# EAGLE library part W5500 (library prj_snowmaker)
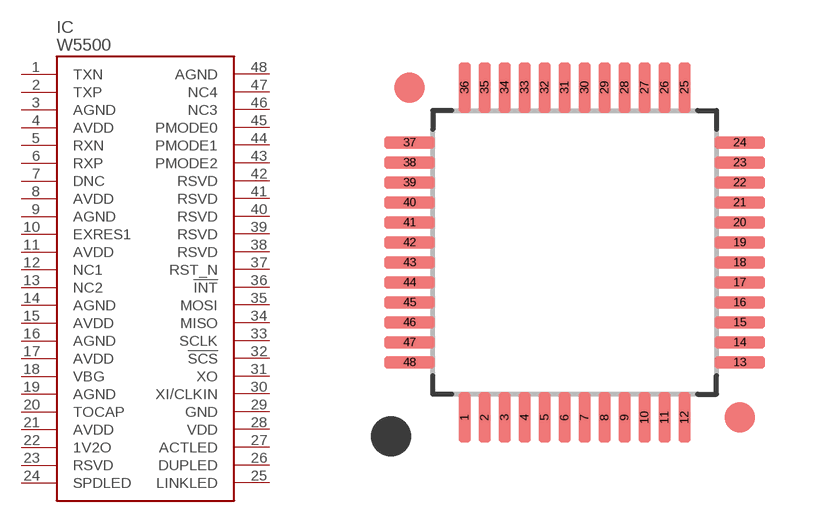
[diagram p5: symbol with the pads of LQFP48_7X7_0.5P; footprint LQFP48_7X7_0.5P]

Designator prefix IC

## W5500  [LQFP48_7X7_0.5P]
1  TXN  out
2  TXP  out
3  AGND
4  AVDD
5  RXN  in
6  RXP  in
7  DNC  nc
8  AVDD  pwr
9  AGND  pwr
10  EXRES1
11  AVDD  pwr
12  NC1  nc
13  NC2  nc
14  AGND  pwr
15  AVDD  pwr
16  AGND  pwr
17  AVDD  pwr
18  VBG
19  AGND  pwr
20  TOCAP
21  AVDD  pwr
22  1V2O
23  RSVD
24  SPDLED
25  LINKLED  out
26  DUPLED  out
27  ACTLED  out
28  VDD  pwr
29  GND  pwr
30  XI/CLKIN  in
31  XO  out
32  !SCS  in
33  SCLK  in
34  MISO  out
35  MOSI  in
36  !INT  out
37  RST_N
38  RSVD  in
39  RSVD  in
40  RSVD  in
41  RSVD  in
42  RSVD  in
43  PMODE2  in
44  PMODE1  in
45  PMODE0  in
46  NC3  nc
47  NC4  nc
48  AGND  pwr

## Footprint LQFP48_7X7_0.5P (pad centres in mm)
QFP48P50_900X900X145L60X22N Quad Flat Pack (QFP), 0.50 mm pitch; square, 12 pin X 12 pin, 7.00 mm L X 7.00 mm W X 1.45 mm H body PCB Libraries Packages
smd 0.3 x 1.26: 1 -2.75,-4.13; 2 -2.25,-4.13; 3 -1.75,-4.13; 4 -1.25,-4.13; 5 -0.75,-4.13; 6 -0.25,-4.13; 7 0.25,-4.13; 8 0.75,-4.13; 9 1.25,-4.13; 10 1.75,-4.13; 11 2.25,-4.13; 12 2.75,-4.13; 25 2.75,4.13; 26 2.25,4.13; 27 1.75,4.13; 28 1.25,4.13; 29 0.75,4.13; 30 0.25,4.13; 31 -0.25,4.13; 32 -0.75,4.13; 33 -1.25,4.13; 34 -1.75,4.13; 35 -2.25,4.13; 36 -2.75,4.13
smd 1.26 x 0.3: 13 4.13,-2.75; 14 4.13,-2.25; 15 4.13,-1.75; 16 4.13,-1.25; 17 4.13,-0.75; 18 4.13,-0.25; 19 4.13,0.25; 20 4.13,0.75; 21 4.13,1.25; 22 4.13,1.75; 23 4.13,2.25; 24 4.13,2.75; 37 -4.13,2.75; 38 -4.13,2.25; 39 -4.13,1.75; 40 -4.13,1.25; 41 -4.13,0.75; 42 -4.13,0.25; 43 -4.13,-0.25; 44 -4.13,-0.75; 45 -4.13,-1.25; 46 -4.13,-1.75; 47 -4.13,-2.25; 48 -4.13,-2.75